# Altium schematic symbol library Zener.SchLib: 2 symbols
Pins are listed as number, name and electrical type; pins without a type are passive.

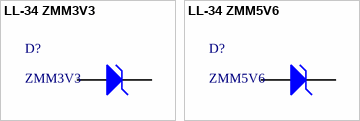
[diagram p0: symbols LL-34 ZMM3V3 to LL-34 ZMM5V6]

## LL-34 ZMM3V3
designator D?, comment ZMM3V3
稳压二极管; ComponentLink1Description: 供应商链接; ComponentLink1URL: http://www.szlcsc.com/product/details_8535.html; Package: LL-34; Supplier: LC; SuppliersPartNumber: C8056
footprint LC-LL-34
pins: 1 A, 2 K

## LL-34 ZMM5V6
designator D?, comment ZMM5V6
稳压二极管; ComponentLink1Description: 供应商链接; ComponentLink1URL: http://www.szlcsc.com/product/details_8541.html; Package: LL-34; Supplier: LC; SuppliersPartNumber: C8062
footprint LC-LL-34
pins: 1 A, 2 K